# Altium footprint library Connector_IDC.PcbLib: 182 footprints (part 10 of 12)
Each footprint in its own frame and in the unit in brackets; x right, y up, seen from the top. Pads: shape width x height; smd on the part's side, far side on the other; paste and mask are expansions set on the pad; w line width, h text height; cw(c..) or ccw(c..) is an arc to the next point about the centre after c.
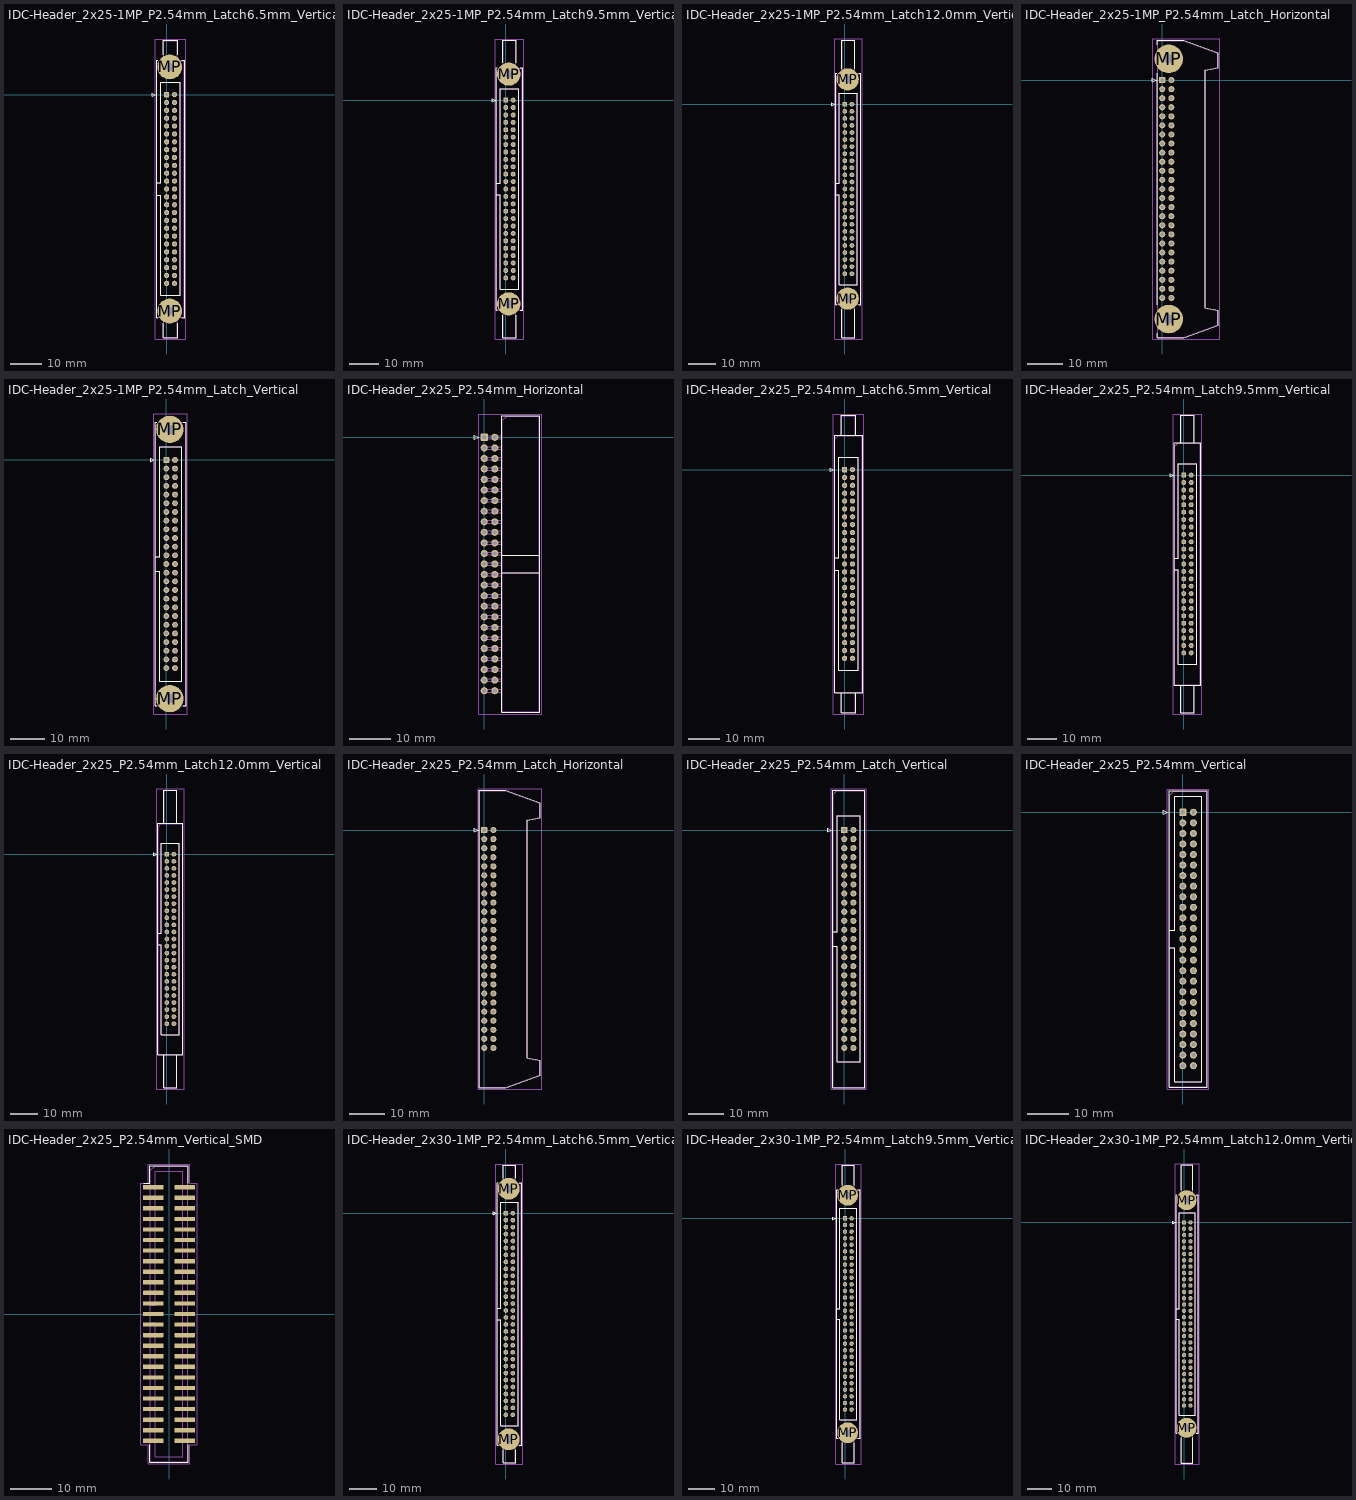
[diagram p9: the footprints below, top view; thin cyan lines are the x and y axes]

## IDC-Header_2x25-1MP_P2.54mm_Latch6.5mm_Vertical [mm]
pads (52):
  rrect15% 1.7x1.7 hole 1: 1(0,0)
  round 1.7 hole 1: 2(2.54,0) 3(0,-2.54) 4(2.54,-2.54) 5(0,-5.08) 6(2.54,-5.08) 7(0,-7.62) 8(2.54,-7.62) 9(0,-10.16) 10(2.54,-10.16) 11(0,-12.7) 12(2.54,-12.7) 13(0,-15.24) 14(2.54,-15.24) 15(0,-17.78) 16(2.54,-17.78) 17(0,-20.32) 18(2.54,-20.32) 19(0,-22.86) 20(2.54,-22.86) 21(0,-25.4) 22(2.54,-25.4) 23(0,-27.94) 24(2.54,-27.94) 25(0,-30.48) 26(2.54,-30.48) 27(0,-33.02) 28(2.54,-33.02) 29(0,-35.56) 30(2.54,-35.56) 31(0,-38.1) 32(2.54,-38.1) 33(0,-40.64) 34(2.54,-40.64) 35(0,-43.18) 36(2.54,-43.18) 37(0,-45.72) 38(2.54,-45.72) 39(0,-48.26) 40(2.54,-48.26) 41(0,-50.8) 42(2.54,-50.8) 43(0,-53.34) 44(2.54,-53.34) 45(0,-55.88) 46(2.54,-55.88) 47(0,-58.42) 48(2.54,-58.42) 49(0,-60.96) 50(2.54,-60.96)
  round 8 hole 2.69: MP(1.02,-69.9) MP(1.02,8.94)
F.SilkS:
  lines w0.254: -3.24,-32.53 -1.93,-32.53 -1.93,-64.88 4.47,-64.88 4.47,3.92 -1.93,3.92 -1.93,-28.43 -3.24,-28.43 ; -2.87,-72.04 -3.24,-72.04 -3.24,11.08 -2.87,11.08 ; -1.04,-73.79 -1.04,-78.54 3.58,-78.54 3.58,-73.79 ; -1.04,12.83 -1.04,17.58 3.58,17.58 3.58,12.83 ; 4.91,-72.04 5.78,-72.04 5.78,11.08 4.91,11.08 ; -4.63,-0.5 -3.63,0 -4.63,0.5 -4.63,-0.5
Top Assembly:
  lines w0.254: -3.13,-32.53 -1.93,-32.53 -1.93,-64.88 4.47,-64.88 4.47,3.92 -1.93,3.92 -1.93,-28.43 -3.13,-28.43 ; -0.93,-71.93 -0.93,-78.43 3.47,-78.43 3.47,-71.93 ; -0.93,10.97 -0.93,17.47 3.47,17.47 3.47,10.97 ; -3.13,-71.93 5.67,-71.93 5.67,10.97 -2.13,10.97 -3.13,9.97 -3.13,-71.93
  text "'.Designator'" at 2.11,-34.527 h1
Top Courtyard:
  lines w0.254: -3.63,-78.94 6.17,-78.94 6.17,17.97 -3.63,17.97 -3.63,-78.94
Top Designator:
  text ".Designator" at -6.848,-30.993 h1.52

## IDC-Header_2x25-1MP_P2.54mm_Latch9.5mm_Vertical [mm]
pads (52):
  rrect15% 1.7x1.7 hole 1: 1(0,0)
  round 1.7 hole 1: 2(2.54,0) 3(0,-2.54) 4(2.54,-2.54) 5(0,-5.08) 6(2.54,-5.08) 7(0,-7.62) 8(2.54,-7.62) 9(0,-10.16) 10(2.54,-10.16) 11(0,-12.7) 12(2.54,-12.7) 13(0,-15.24) 14(2.54,-15.24) 15(0,-17.78) 16(2.54,-17.78) 17(0,-20.32) 18(2.54,-20.32) 19(0,-22.86) 20(2.54,-22.86) 21(0,-25.4) 22(2.54,-25.4) 23(0,-27.94) 24(2.54,-27.94) 25(0,-30.48) 26(2.54,-30.48) 27(0,-33.02) 28(2.54,-33.02) 29(0,-35.56) 30(2.54,-35.56) 31(0,-38.1) 32(2.54,-38.1) 33(0,-40.64) 34(2.54,-40.64) 35(0,-43.18) 36(2.54,-43.18) 37(0,-45.72) 38(2.54,-45.72) 39(0,-48.26) 40(2.54,-48.26) 41(0,-50.8) 42(2.54,-50.8) 43(0,-53.34) 44(2.54,-53.34) 45(0,-55.88) 46(2.54,-55.88) 47(0,-58.42) 48(2.54,-58.42) 49(0,-60.96) 50(2.54,-60.96)
  round 8 hole 2.69: MP(1.02,-69.9) MP(1.02,8.94)
F.SilkS:
  lines w0.254: -3.24,-32.53 -1.93,-32.53 -1.93,-64.88 4.47,-64.88 4.47,3.92 -1.93,3.92 -1.93,-28.43 -3.24,-28.43 ; -2.87,-72.04 -3.24,-72.04 -3.24,11.08 -2.87,11.08 ; -1.04,-73.79 -1.04,-81.54 3.58,-81.54 3.58,-73.79 ; -1.04,12.83 -1.04,20.58 3.58,20.58 3.58,12.83 ; 4.91,-72.04 5.78,-72.04 5.78,11.08 4.91,11.08 ; -4.63,-0.5 -3.63,0 -4.63,0.5 -4.63,-0.5
Top Assembly:
  lines w0.254: -3.13,-32.53 -1.93,-32.53 -1.93,-64.88 4.47,-64.88 4.47,3.92 -1.93,3.92 -1.93,-28.43 -3.13,-28.43 ; -0.93,-71.93 -0.93,-81.43 3.47,-81.43 3.47,-71.93 ; -0.93,10.97 -0.93,20.47 3.47,20.47 3.47,10.97 ; -3.13,-71.93 5.67,-71.93 5.67,10.97 -2.13,10.97 -3.13,9.97 -3.13,-71.93
  text "'.Designator'" at 2.11,-34.527 h1
Top Courtyard:
  lines w0.254: -3.63,-81.93 6.17,-81.93 6.17,20.97 -3.63,20.97 -3.63,-81.93
Top Designator:
  text ".Designator" at -6.848,-30.988 h1.52

## IDC-Header_2x25-1MP_P2.54mm_Latch12.0mm_Vertical [mm]
pads (52):
  rrect15% 1.7x1.7 hole 1: 1(0,0)
  round 1.7 hole 1: 2(2.54,0) 3(0,-2.54) 4(2.54,-2.54) 5(0,-5.08) 6(2.54,-5.08) 7(0,-7.62) 8(2.54,-7.62) 9(0,-10.16) 10(2.54,-10.16) 11(0,-12.7) 12(2.54,-12.7) 13(0,-15.24) 14(2.54,-15.24) 15(0,-17.78) 16(2.54,-17.78) 17(0,-20.32) 18(2.54,-20.32) 19(0,-22.86) 20(2.54,-22.86) 21(0,-25.4) 22(2.54,-25.4) 23(0,-27.94) 24(2.54,-27.94) 25(0,-30.48) 26(2.54,-30.48) 27(0,-33.02) 28(2.54,-33.02) 29(0,-35.56) 30(2.54,-35.56) 31(0,-38.1) 32(2.54,-38.1) 33(0,-40.64) 34(2.54,-40.64) 35(0,-43.18) 36(2.54,-43.18) 37(0,-45.72) 38(2.54,-45.72) 39(0,-48.26) 40(2.54,-48.26) 41(0,-50.8) 42(2.54,-50.8) 43(0,-53.34) 44(2.54,-53.34) 45(0,-55.88) 46(2.54,-55.88) 47(0,-58.42) 48(2.54,-58.42) 49(0,-60.96) 50(2.54,-60.96)
  round 8 hole 2.69: MP(1.02,-69.9) MP(1.02,8.94)
F.SilkS:
  lines w0.254: -3.24,-32.53 -1.93,-32.53 -1.93,-64.88 4.47,-64.88 4.47,3.92 -1.93,3.92 -1.93,-28.43 -3.24,-28.43 ; -2.87,-72.04 -3.24,-72.04 -3.24,11.08 -2.87,11.08 ; -1.04,-73.79 -1.04,-84.04 3.58,-84.04 3.58,-73.79 ; -1.04,12.83 -1.04,23.08 3.58,23.08 3.58,12.83 ; 4.91,-72.04 5.78,-72.04 5.78,11.08 4.91,11.08 ; -4.63,-0.5 -3.63,0 -4.63,0.5 -4.63,-0.5
Top Assembly:
  lines w0.254: -3.13,-32.53 -1.93,-32.53 -1.93,-64.88 4.47,-64.88 4.47,3.92 -1.93,3.92 -1.93,-28.43 -3.13,-28.43 ; -0.93,-71.93 -0.93,-83.93 3.47,-83.93 3.47,-71.93 ; -0.93,10.97 -0.93,22.97 3.47,22.97 3.47,10.97 ; -3.13,-71.93 5.67,-71.93 5.67,10.97 -2.13,10.97 -3.13,9.97 -3.13,-71.93
  text "'.Designator'" at 2.11,-34.527 h1
Top Courtyard:
  lines w0.254: -3.63,-84.43 6.17,-84.43 6.17,23.47 -3.63,23.47 -3.63,-84.43
Top Designator:
  text ".Designator" at -6.848,-30.988 h1.52

## IDC-Header_2x25-1MP_P2.54mm_Latch_Horizontal [mm]
pads (52):
  rrect15% 1.7x1.7 hole 1: 1(0,0)
  round 1.7 hole 1: 2(2.54,0) 3(0,-2.54) 4(2.54,-2.54) 5(0,-5.08) 6(2.54,-5.08) 7(0,-7.62) 8(2.54,-7.62) 9(0,-10.16) 10(2.54,-10.16) 11(0,-12.7) 12(2.54,-12.7) 13(0,-15.24) 14(2.54,-15.24) 15(0,-17.78) 16(2.54,-17.78) 17(0,-20.32) 18(2.54,-20.32) 19(0,-22.86) 20(2.54,-22.86) 21(0,-25.4) 22(2.54,-25.4) 23(0,-27.94) 24(2.54,-27.94) 25(0,-30.48) 26(2.54,-30.48) 27(0,-33.02) 28(2.54,-33.02) 29(0,-35.56) 30(2.54,-35.56) 31(0,-38.1) 32(2.54,-38.1) 33(0,-40.64) 34(2.54,-40.64) 35(0,-43.18) 36(2.54,-43.18) 37(0,-45.72) 38(2.54,-45.72) 39(0,-48.26) 40(2.54,-48.26) 41(0,-50.8) 42(2.54,-50.8) 43(0,-53.34) 44(2.54,-53.34) 45(0,-55.88) 46(2.54,-55.88) 47(0,-58.42) 48(2.54,-58.42) 49(0,-60.96) 50(2.54,-60.96)
  round 8 hole 2.69: MP(1.8,-66.865) MP(1.8,5.905)
F.SilkS:
  lines w0.254: -1.35,-70.865 -1.35,-72.04 5.98,-72.04 15.64,-68.57 15.64,-64.38 12.08,-63.75 12.08,2.79 15.64,3.42 15.64,7.61 5.98,11.08 -1.35,11.08 -1.35,9.905 ; -1.35,-62.865 -1.35,1.905 ; -2.74,-0.5 -1.74,0 -2.74,0.5 -2.74,-0.5
Top Assembly:
  lines w0.254: -1.24,-71.93 5.87,-71.93 15.53,-68.46 15.53,-64.49 11.97,-63.86 11.97,2.9 15.53,3.53 15.53,7.5 5.87,10.97 -1.24,10.97 -1.24,-71.93
  text "'.Designator'" at 7.985,-34.527 h1
Top Courtyard:
  lines w0.254: -2.7,-72.44 16.03,-72.44 16.03,11.47 -2.7,11.47 -2.7,-72.44
Top Designator:
  text ".Designator" at -0.973,-30.993 h1.52

## IDC-Header_2x25-1MP_P2.54mm_Latch_Vertical [mm]
pads (52):
  rrect15% 1.7x1.7 hole 1: 1(0,0)
  round 1.7 hole 1: 2(2.54,0) 3(0,-2.54) 4(2.54,-2.54) 5(0,-5.08) 6(2.54,-5.08) 7(0,-7.62) 8(2.54,-7.62) 9(0,-10.16) 10(2.54,-10.16) 11(0,-12.7) 12(2.54,-12.7) 13(0,-15.24) 14(2.54,-15.24) 15(0,-17.78) 16(2.54,-17.78) 17(0,-20.32) 18(2.54,-20.32) 19(0,-22.86) 20(2.54,-22.86) 21(0,-25.4) 22(2.54,-25.4) 23(0,-27.94) 24(2.54,-27.94) 25(0,-30.48) 26(2.54,-30.48) 27(0,-33.02) 28(2.54,-33.02) 29(0,-35.56) 30(2.54,-35.56) 31(0,-38.1) 32(2.54,-38.1) 33(0,-40.64) 34(2.54,-40.64) 35(0,-43.18) 36(2.54,-43.18) 37(0,-45.72) 38(2.54,-45.72) 39(0,-48.26) 40(2.54,-48.26) 41(0,-50.8) 42(2.54,-50.8) 43(0,-53.34) 44(2.54,-53.34) 45(0,-55.88) 46(2.54,-55.88) 47(0,-58.42) 48(2.54,-58.42) 49(0,-60.96) 50(2.54,-60.96)
  round 8 hole 2.69: MP(1.02,-69.9) MP(1.02,8.94)
F.SilkS:
  lines w0.254: -3.24,-32.53 -1.93,-32.53 -1.93,-64.88 4.47,-64.88 4.47,3.92 -1.93,3.92 -1.93,-28.43 -3.24,-28.43 ; -2.87,-72.04 -3.24,-72.04 -3.24,11.08 -2.87,11.08 ; 4.91,-72.04 5.78,-72.04 5.78,11.08 4.91,11.08 ; -4.63,-0.5 -3.63,0 -4.63,0.5 -4.63,-0.5
Top Assembly:
  lines w0.254: -3.13,-32.53 -1.93,-32.53 -1.93,-64.88 4.47,-64.88 4.47,3.92 -1.93,3.92 -1.93,-28.43 -3.13,-28.43 ; -3.13,-71.93 5.67,-71.93 5.67,10.97 -2.13,10.97 -3.13,9.97 -3.13,-71.93
  text "'.Designator'" at 2.11,-34.527 h1
Top Courtyard:
  lines w0.254: -3.63,-74.4 6.17,-74.4 6.17,13.44 -3.63,13.44 -3.63,-74.4
Top Designator:
  text ".Designator" at -6.848,-30.988 h1.52

## IDC-Header_2x25_P2.54mm_Horizontal [mm]
pads (50):
  rrect15% 1.7x1.7 hole 1: 1(0,0)
  round 1.7 hole 1: 2(2.54,0) 3(0,-2.54) 4(2.54,-2.54) 5(0,-5.08) 6(2.54,-5.08) 7(0,-7.62) 8(2.54,-7.62) 9(0,-10.16) 10(2.54,-10.16) 11(0,-12.7) 12(2.54,-12.7) 13(0,-15.24) 14(2.54,-15.24) 15(0,-17.78) 16(2.54,-17.78) 17(0,-20.32) 18(2.54,-20.32) 19(0,-22.86) 20(2.54,-22.86) 21(0,-25.4) 22(2.54,-25.4) 23(0,-27.94) 24(2.54,-27.94) 25(0,-30.48) 26(2.54,-30.48) 27(0,-33.02) 28(2.54,-33.02) 29(0,-35.56) 30(2.54,-35.56) 31(0,-38.1) 32(2.54,-38.1) 33(0,-40.64) 34(2.54,-40.64) 35(0,-43.18) 36(2.54,-43.18) 37(0,-45.72) 38(2.54,-45.72) 39(0,-48.26) 40(2.54,-48.26) 41(0,-50.8) 42(2.54,-50.8) 43(0,-53.34) 44(2.54,-53.34) 45(0,-55.88) 46(2.54,-55.88) 47(0,-58.42) 48(2.54,-58.42) 49(0,-60.96) 50(2.54,-60.96)
F.SilkS:
  lines w0.254: 4.27,-32.53 13.39,-32.53 ; 4.27,-28.43 13.39,-28.43 ; -2.35,-0.5 -1.35,0 -2.35,0.5 -2.35,-0.5 ; 4.27,-66.17 13.39,-66.17 13.39,5.21 4.27,5.21 4.27,-66.17
Top Assembly:
  lines w0.254: 4.38,-61.28 -0.32,-61.28 -0.32,-60.64 4.38,-60.64 ; 4.38,-58.74 -0.32,-58.74 -0.32,-58.1 4.38,-58.1 ; 4.38,-56.2 -0.32,-56.2 -0.32,-55.56 4.38,-55.56 ; 4.38,-53.66 -0.32,-53.66 -0.32,-53.02 4.38,-53.02 ; 4.38,-51.12 -0.32,-51.12 -0.32,-50.48 4.38,-50.48 ; 4.38,-48.58 -0.32,-48.58 -0.32,-47.94 4.38,-47.94 ; 4.38,-46.04 -0.32,-46.04 -0.32,-45.4 4.38,-45.4 ; 4.38,-43.5 -0.32,-43.5 -0.32,-42.86 4.38,-42.86 ; 4.38,-40.96 -0.32,-40.96 -0.32,-40.32 4.38,-40.32 ; 4.38,-38.42 -0.32,-38.42 -0.32,-37.78 4.38,-37.78 ; 4.38,-35.88 -0.32,-35.88 -0.32,-35.24 4.38,-35.24 ; 4.38,-33.34 -0.32,-33.34 -0.32,-32.7 4.38,-32.7 ; 4.38,-32.53 13.28,-32.53 ; 4.38,-30.8 -0.32,-30.8 -0.32,-30.16 4.38,-30.16 ; 4.38,-28.43 13.28,-28.43 ; 4.38,-28.26 -0.32,-28.26 -0.32,-27.62 4.38,-27.62 ; 4.38,-25.72 -0.32,-25.72 -0.32,-25.08 4.38,-25.08 ; 4.38,-23.18 -0.32,-23.18 -0.32,-22.54 4.38,-22.54 ; 4.38,-20.64 -0.32,-20.64 -0.32,-20 4.38,-20 ; 4.38,-18.1 -0.32,-18.1 -0.32,-17.46 4.38,-17.46 ; 4.38,-15.56 -0.32,-15.56 -0.32,-14.92 4.38,-14.92 ; 4.38,-13.02 -0.32,-13.02 -0.32,-12.38 4.38,-12.38 ; 4.38,-10.48 -0.32,-10.48 -0.32,-9.84 4.38,-9.84 ; 4.38,-7.94 -0.32,-7.94 -0.32,-7.3 4.38,-7.3 ; 4.38,-5.4 -0.32,-5.4 -0.32,-4.76 4.38,-4.76 ; 4.38,-2.86 -0.32,-2.86 -0.32,-2.22 4.38,-2.22 ; 4.38,-0.32 -0.32,-0.32 -0.32,0.32 4.38,0.32 ; 4.38,-66.06 13.28,-66.06 13.28,5.1 5.38,5.1 4.38,4.1 4.38,-66.06
  text "'.Designator'" at 9.67,-34.527 h1
Top Courtyard:
  lines w0.254: -1.35,-66.56 13.78,-66.56 13.78,5.6 -1.35,5.6 -1.35,-66.56
Top Designator:
  text ".Designator" at -1.903,-30.988 h1.52

## IDC-Header_2x25_P2.54mm_Latch6.5mm_Vertical [mm]
pads (50):
  rrect15% 1.7x1.7 hole 1: 1(0,0)
  round 1.7 hole 1: 2(2.54,0) 3(0,-2.54) 4(2.54,-2.54) 5(0,-5.08) 6(2.54,-5.08) 7(0,-7.62) 8(2.54,-7.62) 9(0,-10.16) 10(2.54,-10.16) 11(0,-12.7) 12(2.54,-12.7) 13(0,-15.24) 14(2.54,-15.24) 15(0,-17.78) 16(2.54,-17.78) 17(0,-20.32) 18(2.54,-20.32) 19(0,-22.86) 20(2.54,-22.86) 21(0,-25.4) 22(2.54,-25.4) 23(0,-27.94) 24(2.54,-27.94) 25(0,-30.48) 26(2.54,-30.48) 27(0,-33.02) 28(2.54,-33.02) 29(0,-35.56) 30(2.54,-35.56) 31(0,-38.1) 32(2.54,-38.1) 33(0,-40.64) 34(2.54,-40.64) 35(0,-43.18) 36(2.54,-43.18) 37(0,-45.72) 38(2.54,-45.72) 39(0,-48.26) 40(2.54,-48.26) 41(0,-50.8) 42(2.54,-50.8) 43(0,-53.34) 44(2.54,-53.34) 45(0,-55.88) 46(2.54,-55.88) 47(0,-58.42) 48(2.54,-58.42) 49(0,-60.96) 50(2.54,-60.96)
F.SilkS:
  lines w0.254: -3.24,-32.53 -1.93,-32.53 -1.93,-64.88 4.47,-64.88 4.47,3.92 -1.93,3.92 -1.93,-28.43 -3.24,-28.43 ; -1.04,-72.04 -1.04,-78.54 3.58,-78.54 3.58,-72.04 ; -1.04,11.08 -1.04,17.58 3.58,17.58 3.58,11.08 ; -4.63,-0.5 -3.63,0 -4.63,0.5 -4.63,-0.5 ; -3.24,-72.04 5.78,-72.04 5.78,11.08 -3.24,11.08 -3.24,-72.04
Top Assembly:
  lines w0.254: -3.13,-32.53 -1.93,-32.53 -1.93,-64.88 4.47,-64.88 4.47,3.92 -1.93,3.92 -1.93,-28.43 -3.13,-28.43 ; -0.93,-71.93 -0.93,-78.43 3.47,-78.43 3.47,-71.93 ; -0.93,10.97 -0.93,17.47 3.47,17.47 3.47,10.97 ; -3.13,-71.93 5.67,-71.93 5.67,10.97 -2.13,10.97 -3.13,9.97 -3.13,-71.93
  text "'.Designator'" at 2.11,-34.527 h1
Top Courtyard:
  lines w0.254: -3.63,-78.94 6.17,-78.94 6.17,17.97 -3.63,17.97 -3.63,-78.94
Top Designator:
  text ".Designator" at -6.848,-30.993 h1.52

## IDC-Header_2x25_P2.54mm_Latch9.5mm_Vertical [mm]
pads (50):
  rrect15% 1.7x1.7 hole 1: 1(0,0)
  round 1.7 hole 1: 2(2.54,0) 3(0,-2.54) 4(2.54,-2.54) 5(0,-5.08) 6(2.54,-5.08) 7(0,-7.62) 8(2.54,-7.62) 9(0,-10.16) 10(2.54,-10.16) 11(0,-12.7) 12(2.54,-12.7) 13(0,-15.24) 14(2.54,-15.24) 15(0,-17.78) 16(2.54,-17.78) 17(0,-20.32) 18(2.54,-20.32) 19(0,-22.86) 20(2.54,-22.86) 21(0,-25.4) 22(2.54,-25.4) 23(0,-27.94) 24(2.54,-27.94) 25(0,-30.48) 26(2.54,-30.48) 27(0,-33.02) 28(2.54,-33.02) 29(0,-35.56) 30(2.54,-35.56) 31(0,-38.1) 32(2.54,-38.1) 33(0,-40.64) 34(2.54,-40.64) 35(0,-43.18) 36(2.54,-43.18) 37(0,-45.72) 38(2.54,-45.72) 39(0,-48.26) 40(2.54,-48.26) 41(0,-50.8) 42(2.54,-50.8) 43(0,-53.34) 44(2.54,-53.34) 45(0,-55.88) 46(2.54,-55.88) 47(0,-58.42) 48(2.54,-58.42) 49(0,-60.96) 50(2.54,-60.96)
F.SilkS:
  lines w0.254: -3.24,-32.53 -1.93,-32.53 -1.93,-64.88 4.47,-64.88 4.47,3.92 -1.93,3.92 -1.93,-28.43 -3.24,-28.43 ; -1.04,-72.04 -1.04,-81.54 3.58,-81.54 3.58,-72.04 ; -1.04,11.08 -1.04,20.58 3.58,20.58 3.58,11.08 ; -4.63,-0.5 -3.63,0 -4.63,0.5 -4.63,-0.5 ; -3.24,-72.04 5.78,-72.04 5.78,11.08 -3.24,11.08 -3.24,-72.04
Top Assembly:
  lines w0.254: -3.13,-32.53 -1.93,-32.53 -1.93,-64.88 4.47,-64.88 4.47,3.92 -1.93,3.92 -1.93,-28.43 -3.13,-28.43 ; -0.93,-71.93 -0.93,-81.43 3.47,-81.43 3.47,-71.93 ; -0.93,10.97 -0.93,20.47 3.47,20.47 3.47,10.97 ; -3.13,-71.93 5.67,-71.93 5.67,10.97 -2.13,10.97 -3.13,9.97 -3.13,-71.93
  text "'.Designator'" at 2.11,-34.527 h1
Top Courtyard:
  lines w0.254: -3.63,-81.93 6.17,-81.93 6.17,20.97 -3.63,20.97 -3.63,-81.93
Top Designator:
  text ".Designator" at -6.848,-30.988 h1.52

## IDC-Header_2x25_P2.54mm_Latch12.0mm_Vertical [mm]
pads (50):
  rrect15% 1.7x1.7 hole 1: 1(0,0)
  round 1.7 hole 1: 2(2.54,0) 3(0,-2.54) 4(2.54,-2.54) 5(0,-5.08) 6(2.54,-5.08) 7(0,-7.62) 8(2.54,-7.62) 9(0,-10.16) 10(2.54,-10.16) 11(0,-12.7) 12(2.54,-12.7) 13(0,-15.24) 14(2.54,-15.24) 15(0,-17.78) 16(2.54,-17.78) 17(0,-20.32) 18(2.54,-20.32) 19(0,-22.86) 20(2.54,-22.86) 21(0,-25.4) 22(2.54,-25.4) 23(0,-27.94) 24(2.54,-27.94) 25(0,-30.48) 26(2.54,-30.48) 27(0,-33.02) 28(2.54,-33.02) 29(0,-35.56) 30(2.54,-35.56) 31(0,-38.1) 32(2.54,-38.1) 33(0,-40.64) 34(2.54,-40.64) 35(0,-43.18) 36(2.54,-43.18) 37(0,-45.72) 38(2.54,-45.72) 39(0,-48.26) 40(2.54,-48.26) 41(0,-50.8) 42(2.54,-50.8) 43(0,-53.34) 44(2.54,-53.34) 45(0,-55.88) 46(2.54,-55.88) 47(0,-58.42) 48(2.54,-58.42) 49(0,-60.96) 50(2.54,-60.96)
F.SilkS:
  lines w0.254: -3.24,-32.53 -1.93,-32.53 -1.93,-64.88 4.47,-64.88 4.47,3.92 -1.93,3.92 -1.93,-28.43 -3.24,-28.43 ; -1.04,-72.04 -1.04,-84.04 3.58,-84.04 3.58,-72.04 ; -1.04,11.08 -1.04,23.08 3.58,23.08 3.58,11.08 ; -4.63,-0.5 -3.63,0 -4.63,0.5 -4.63,-0.5 ; -3.24,-72.04 5.78,-72.04 5.78,11.08 -3.24,11.08 -3.24,-72.04
Top Assembly:
  lines w0.254: -3.13,-32.53 -1.93,-32.53 -1.93,-64.88 4.47,-64.88 4.47,3.92 -1.93,3.92 -1.93,-28.43 -3.13,-28.43 ; -0.93,-71.93 -0.93,-83.93 3.47,-83.93 3.47,-71.93 ; -0.93,10.97 -0.93,22.97 3.47,22.97 3.47,10.97 ; -3.13,-71.93 5.67,-71.93 5.67,10.97 -2.13,10.97 -3.13,9.97 -3.13,-71.93
  text "'.Designator'" at 2.11,-34.527 h1
Top Courtyard:
  lines w0.254: -3.63,-84.43 6.17,-84.43 6.17,23.47 -3.63,23.47 -3.63,-84.43
Top Designator:
  text ".Designator" at -6.848,-30.988 h1.52

## IDC-Header_2x25_P2.54mm_Latch_Horizontal [mm]
pads (50):
  rrect15% 1.7x1.7 hole 1: 1(0,0)
  round 1.7 hole 1: 2(2.54,0) 3(0,-2.54) 4(2.54,-2.54) 5(0,-5.08) 6(2.54,-5.08) 7(0,-7.62) 8(2.54,-7.62) 9(0,-10.16) 10(2.54,-10.16) 11(0,-12.7) 12(2.54,-12.7) 13(0,-15.24) 14(2.54,-15.24) 15(0,-17.78) 16(2.54,-17.78) 17(0,-20.32) 18(2.54,-20.32) 19(0,-22.86) 20(2.54,-22.86) 21(0,-25.4) 22(2.54,-25.4) 23(0,-27.94) 24(2.54,-27.94) 25(0,-30.48) 26(2.54,-30.48) 27(0,-33.02) 28(2.54,-33.02) 29(0,-35.56) 30(2.54,-35.56) 31(0,-38.1) 32(2.54,-38.1) 33(0,-40.64) 34(2.54,-40.64) 35(0,-43.18) 36(2.54,-43.18) 37(0,-45.72) 38(2.54,-45.72) 39(0,-48.26) 40(2.54,-48.26) 41(0,-50.8) 42(2.54,-50.8) 43(0,-53.34) 44(2.54,-53.34) 45(0,-55.88) 46(2.54,-55.88) 47(0,-58.42) 48(2.54,-58.42) 49(0,-60.96) 50(2.54,-60.96)
F.SilkS:
  lines w0.254: -2.74,-0.5 -1.74,0 -2.74,0.5 -2.74,-0.5 ; -1.35,-72.04 5.98,-72.04 15.64,-68.57 15.64,-64.38 12.08,-63.75 12.08,2.79 15.64,3.42 15.64,7.61 5.98,11.08 -1.35,11.08 -1.35,-72.04
Top Assembly:
  lines w0.254: -1.24,-71.93 5.87,-71.93 15.53,-68.46 15.53,-64.49 11.97,-63.86 11.97,2.9 15.53,3.53 15.53,7.5 5.87,10.97 -1.24,10.97 -1.24,-71.93
  text "'.Designator'" at 7.985,-34.527 h1
Top Courtyard:
  lines w0.254: -1.74,-72.44 16.03,-72.44 16.03,11.47 -1.74,11.47 -1.74,-72.44
Top Designator:
  text ".Designator" at -0.973,-30.993 h1.52

## IDC-Header_2x25_P2.54mm_Latch_Vertical [mm]
pads (50):
  rrect15% 1.7x1.7 hole 1: 1(0,0)
  round 1.7 hole 1: 2(2.54,0) 3(0,-2.54) 4(2.54,-2.54) 5(0,-5.08) 6(2.54,-5.08) 7(0,-7.62) 8(2.54,-7.62) 9(0,-10.16) 10(2.54,-10.16) 11(0,-12.7) 12(2.54,-12.7) 13(0,-15.24) 14(2.54,-15.24) 15(0,-17.78) 16(2.54,-17.78) 17(0,-20.32) 18(2.54,-20.32) 19(0,-22.86) 20(2.54,-22.86) 21(0,-25.4) 22(2.54,-25.4) 23(0,-27.94) 24(2.54,-27.94) 25(0,-30.48) 26(2.54,-30.48) 27(0,-33.02) 28(2.54,-33.02) 29(0,-35.56) 30(2.54,-35.56) 31(0,-38.1) 32(2.54,-38.1) 33(0,-40.64) 34(2.54,-40.64) 35(0,-43.18) 36(2.54,-43.18) 37(0,-45.72) 38(2.54,-45.72) 39(0,-48.26) 40(2.54,-48.26) 41(0,-50.8) 42(2.54,-50.8) 43(0,-53.34) 44(2.54,-53.34) 45(0,-55.88) 46(2.54,-55.88) 47(0,-58.42) 48(2.54,-58.42) 49(0,-60.96) 50(2.54,-60.96)
F.SilkS:
  lines w0.254: -3.24,-32.53 -1.93,-32.53 -1.93,-64.88 4.47,-64.88 4.47,3.92 -1.93,3.92 -1.93,-28.43 -3.24,-28.43 ; -4.63,-0.5 -3.63,0 -4.63,0.5 -4.63,-0.5 ; -3.24,-72.04 5.78,-72.04 5.78,11.08 -3.24,11.08 -3.24,-72.04
Top Assembly:
  lines w0.254: -3.13,-32.53 -1.93,-32.53 -1.93,-64.88 4.47,-64.88 4.47,3.92 -1.93,3.92 -1.93,-28.43 -3.13,-28.43 ; -3.13,-71.93 5.67,-71.93 5.67,10.97 -2.13,10.97 -3.13,9.97 -3.13,-71.93
  text "'.Designator'" at 2.11,-34.527 h1
Top Courtyard:
  lines w0.254: -3.63,-72.44 6.17,-72.44 6.17,11.47 -3.63,11.47 -3.63,-72.44
Top Designator:
  text ".Designator" at -6.848,-30.993 h1.52

## IDC-Header_2x25_P2.54mm_Vertical [mm]
pads (50):
  rrect15% 1.7x1.7 hole 1: 1(0,0)
  round 1.7 hole 1: 2(2.54,0) 3(0,-2.54) 4(2.54,-2.54) 5(0,-5.08) 6(2.54,-5.08) 7(0,-7.62) 8(2.54,-7.62) 9(0,-10.16) 10(2.54,-10.16) 11(0,-12.7) 12(2.54,-12.7) 13(0,-15.24) 14(2.54,-15.24) 15(0,-17.78) 16(2.54,-17.78) 17(0,-20.32) 18(2.54,-20.32) 19(0,-22.86) 20(2.54,-22.86) 21(0,-25.4) 22(2.54,-25.4) 23(0,-27.94) 24(2.54,-27.94) 25(0,-30.48) 26(2.54,-30.48) 27(0,-33.02) 28(2.54,-33.02) 29(0,-35.56) 30(2.54,-35.56) 31(0,-38.1) 32(2.54,-38.1) 33(0,-40.64) 34(2.54,-40.64) 35(0,-43.18) 36(2.54,-43.18) 37(0,-45.72) 38(2.54,-45.72) 39(0,-48.26) 40(2.54,-48.26) 41(0,-50.8) 42(2.54,-50.8) 43(0,-53.34) 44(2.54,-53.34) 45(0,-55.88) 46(2.54,-55.88) 47(0,-58.42) 48(2.54,-58.42) 49(0,-60.96) 50(2.54,-60.96)
F.SilkS:
  lines w0.254: -3.29,-32.53 -1.98,-32.53 -1.98,-64.87 4.52,-64.87 4.52,3.91 -1.98,3.91 -1.98,-28.43 -3.29,-28.43 ; -4.68,-0.5 -3.68,0 -4.68,0.5 -4.68,-0.5 ; -3.29,-66.17 5.83,-66.17 5.83,5.21 -3.29,5.21 -3.29,-66.17
Top Assembly:
  lines w0.254: -3.18,-32.53 -1.98,-32.53 -1.98,-64.87 4.52,-64.87 4.52,3.91 -1.98,3.91 -1.98,-28.43 -3.18,-28.43 ; -3.18,-66.06 5.72,-66.06 5.72,5.1 -2.18,5.1 -3.18,4.1 -3.18,-66.06
  text "'.Designator'" at 2.11,-34.527 h1
Top Courtyard:
  lines w0.254: -3.68,-66.56 6.22,-66.56 6.22,5.6 -3.68,5.6 -3.68,-66.56
Top Designator:
  text ".Designator" at -6.848,-30.988 h1.52

## IDC-Header_2x25_P2.54mm_Vertical_SMD [mm]
pads (50):
  rrect25% 5x1.02 smd: 1(-3.8,30.48) 2(3.8,30.48) 3(-3.8,27.94) 4(3.8,27.94) 5(-3.8,25.4) 6(3.8,25.4) 7(-3.8,22.86) 8(3.8,22.86) 9(-3.8,20.32) 10(3.8,20.32) 11(-3.8,17.78) 12(3.8,17.78) 13(-3.8,15.24) 14(3.8,15.24) 15(-3.8,12.7) 16(3.8,12.7) 17(-3.8,10.16) 18(3.8,10.16) 19(-3.8,7.62) 20(3.8,7.62) 21(-3.8,5.08) 22(3.8,5.08) 23(-3.8,2.54) 24(3.8,2.54) 25(-3.8,0) 26(3.8,0) 27(-3.8,-2.54) 28(3.8,-2.54) 29(-3.8,-5.08) 30(3.8,-5.08) 31(-3.8,-7.62) 32(3.8,-7.62) 33(-3.8,-10.16) 34(3.8,-10.16) 35(-3.8,-12.7) 36(3.8,-12.7) 37(-3.8,-15.24) 38(3.8,-15.24) 39(-3.8,-17.78) 40(3.8,-17.78) 41(-3.8,-20.32) 42(3.8,-20.32) 43(-3.8,-22.86) 44(3.8,-22.86) 45(-3.8,-25.4) 46(3.8,-25.4) 47(-3.8,-27.94) 48(3.8,-27.94) 49(-3.8,-30.48) 50(3.8,-30.48)
F.SilkS:
  lines w0.254: -6.085,31.49 -4.585,31.49 -4.585,35.67 4.585,35.67 4.585,31.49 ; -4.585,-31.49 -4.585,-35.67 4.585,-35.67 4.585,-31.49
Top Assembly:
  lines w0.254: -4.475,-2.05 -3.275,-2.05 -3.275,-34.36 3.275,-34.36 3.275,34.36 -3.275,34.36 -3.275,2.05 -4.475,2.05 ; -4.475,-35.56 4.475,-35.56 4.475,35.56 -3.475,35.56 -4.475,34.56 -4.475,-35.56
  text "'.Designator'" at 0.84,-4.047 h1
Top Courtyard:
  lines w0.254: -6.8,-31.49 -4.98,-31.49 -4.98,-36.06 4.98,-36.06 4.98,-31.49 6.8,-31.49 6.8,31.49 4.98,31.49 4.98,36.06 -4.98,36.06 -4.98,31.49 -6.8,31.49 -6.8,-31.49
Top Designator:
  text ".Designator" at -7.618,-0.508 h1.52

## IDC-Header_2x30-1MP_P2.54mm_Latch6.5mm_Vertical [mm]
pads (62):
  rrect15% 1.7x1.7 hole 1: 1(0,0)
  round 1.7 hole 1: 2(2.54,0) 3(0,-2.54) 4(2.54,-2.54) 5(0,-5.08) 6(2.54,-5.08) 7(0,-7.62) 8(2.54,-7.62) 9(0,-10.16) 10(2.54,-10.16) 11(0,-12.7) 12(2.54,-12.7) 13(0,-15.24) 14(2.54,-15.24) 15(0,-17.78) 16(2.54,-17.78) 17(0,-20.32) 18(2.54,-20.32) 19(0,-22.86) 20(2.54,-22.86) 21(0,-25.4) 22(2.54,-25.4) 23(0,-27.94) 24(2.54,-27.94) 25(0,-30.48) 26(2.54,-30.48) 27(0,-33.02) 28(2.54,-33.02) 29(0,-35.56) 30(2.54,-35.56) 31(0,-38.1) 32(2.54,-38.1) 33(0,-40.64) 34(2.54,-40.64) 35(0,-43.18) 36(2.54,-43.18) 37(0,-45.72) 38(2.54,-45.72) 39(0,-48.26) 40(2.54,-48.26) 41(0,-50.8) 42(2.54,-50.8) 43(0,-53.34) 44(2.54,-53.34) 45(0,-55.88) 46(2.54,-55.88) 47(0,-58.42) 48(2.54,-58.42) 49(0,-60.96) 50(2.54,-60.96) 51(0,-63.5) 52(2.54,-63.5) 53(0,-66.04) 54(2.54,-66.04) 55(0,-68.58) 56(2.54,-68.58) 57(0,-71.12) 58(2.54,-71.12) 59(0,-73.66) 60(2.54,-73.66)
  round 8 hole 2.69: MP(1.02,-82.6) MP(1.02,8.94)
F.SilkS:
  lines w0.254: -3.24,-38.88 -1.93,-38.88 -1.93,-77.58 4.47,-77.58 4.47,3.92 -1.93,3.92 -1.93,-34.78 -3.24,-34.78 ; -2.87,-84.74 -3.24,-84.74 -3.24,11.08 -2.87,11.08 ; -1.04,-86.49 -1.04,-91.24 3.58,-91.24 3.58,-86.49 ; -1.04,12.83 -1.04,17.58 3.58,17.58 3.58,12.83 ; 4.91,-84.74 5.78,-84.74 5.78,11.08 4.91,11.08 ; -4.63,-0.5 -3.63,0 -4.63,0.5 -4.63,-0.5
Top Assembly:
  lines w0.254: -3.13,-38.88 -1.93,-38.88 -1.93,-77.58 4.47,-77.58 4.47,3.92 -1.93,3.92 -1.93,-34.78 -3.13,-34.78 ; -0.93,-84.63 -0.93,-91.13 3.47,-91.13 3.47,-84.63 ; -0.93,10.97 -0.93,17.47 3.47,17.47 3.47,10.97 ; -3.13,-84.63 5.67,-84.63 5.67,10.97 -2.13,10.97 -3.13,9.97 -3.13,-84.63
  text "'.Designator'" at 2.11,-40.877 h1
Top Courtyard:
  lines w0.254: -3.63,-91.63 6.17,-91.63 6.17,17.97 -3.63,17.97 -3.63,-91.63
Top Designator:
  text ".Designator" at -6.848,-37.338 h1.52

## IDC-Header_2x30-1MP_P2.54mm_Latch9.5mm_Vertical [mm]
pads (62):
  rrect15% 1.7x1.7 hole 1: 1(0,0)
  round 1.7 hole 1: 2(2.54,0) 3(0,-2.54) 4(2.54,-2.54) 5(0,-5.08) 6(2.54,-5.08) 7(0,-7.62) 8(2.54,-7.62) 9(0,-10.16) 10(2.54,-10.16) 11(0,-12.7) 12(2.54,-12.7) 13(0,-15.24) 14(2.54,-15.24) 15(0,-17.78) 16(2.54,-17.78) 17(0,-20.32) 18(2.54,-20.32) 19(0,-22.86) 20(2.54,-22.86) 21(0,-25.4) 22(2.54,-25.4) 23(0,-27.94) 24(2.54,-27.94) 25(0,-30.48) 26(2.54,-30.48) 27(0,-33.02) 28(2.54,-33.02) 29(0,-35.56) 30(2.54,-35.56) 31(0,-38.1) 32(2.54,-38.1) 33(0,-40.64) 34(2.54,-40.64) 35(0,-43.18) 36(2.54,-43.18) 37(0,-45.72) 38(2.54,-45.72) 39(0,-48.26) 40(2.54,-48.26) 41(0,-50.8) 42(2.54,-50.8) 43(0,-53.34) 44(2.54,-53.34) 45(0,-55.88) 46(2.54,-55.88) 47(0,-58.42) 48(2.54,-58.42) 49(0,-60.96) 50(2.54,-60.96) 51(0,-63.5) 52(2.54,-63.5) 53(0,-66.04) 54(2.54,-66.04) 55(0,-68.58) 56(2.54,-68.58) 57(0,-71.12) 58(2.54,-71.12) 59(0,-73.66) 60(2.54,-73.66)
  round 8 hole 2.69: MP(1.02,-82.6) MP(1.02,8.94)
F.SilkS:
  lines w0.254: -3.24,-38.88 -1.93,-38.88 -1.93,-77.58 4.47,-77.58 4.47,3.92 -1.93,3.92 -1.93,-34.78 -3.24,-34.78 ; -2.87,-84.74 -3.24,-84.74 -3.24,11.08 -2.87,11.08 ; -1.04,-86.49 -1.04,-94.24 3.58,-94.24 3.58,-86.49 ; -1.04,12.83 -1.04,20.58 3.58,20.58 3.58,12.83 ; 4.91,-84.74 5.78,-84.74 5.78,11.08 4.91,11.08 ; -4.63,-0.5 -3.63,0 -4.63,0.5 -4.63,-0.5
Top Assembly:
  lines w0.254: -3.13,-38.88 -1.93,-38.88 -1.93,-77.58 4.47,-77.58 4.47,3.92 -1.93,3.92 -1.93,-34.78 -3.13,-34.78 ; -0.93,-84.63 -0.93,-94.13 3.47,-94.13 3.47,-84.63 ; -0.93,10.97 -0.93,20.47 3.47,20.47 3.47,10.97 ; -3.13,-84.63 5.67,-84.63 5.67,10.97 -2.13,10.97 -3.13,9.97 -3.13,-84.63
  text "'.Designator'" at 2.11,-40.877 h1
Top Courtyard:
  lines w0.254: -3.63,-94.63 6.17,-94.63 6.17,20.97 -3.63,20.97 -3.63,-94.63
Top Designator:
  text ".Designator" at -6.848,-37.338 h1.52

## IDC-Header_2x30-1MP_P2.54mm_Latch12.0mm_Vertical [mm]
pads (62):
  rrect15% 1.7x1.7 hole 1: 1(0,0)
  round 1.7 hole 1: 2(2.54,0) 3(0,-2.54) 4(2.54,-2.54) 5(0,-5.08) 6(2.54,-5.08) 7(0,-7.62) 8(2.54,-7.62) 9(0,-10.16) 10(2.54,-10.16) 11(0,-12.7) 12(2.54,-12.7) 13(0,-15.24) 14(2.54,-15.24) 15(0,-17.78) 16(2.54,-17.78) 17(0,-20.32) 18(2.54,-20.32) 19(0,-22.86) 20(2.54,-22.86) 21(0,-25.4) 22(2.54,-25.4) 23(0,-27.94) 24(2.54,-27.94) 25(0,-30.48) 26(2.54,-30.48) 27(0,-33.02) 28(2.54,-33.02) 29(0,-35.56) 30(2.54,-35.56) 31(0,-38.1) 32(2.54,-38.1) 33(0,-40.64) 34(2.54,-40.64) 35(0,-43.18) 36(2.54,-43.18) 37(0,-45.72) 38(2.54,-45.72) 39(0,-48.26) 40(2.54,-48.26) 41(0,-50.8) 42(2.54,-50.8) 43(0,-53.34) 44(2.54,-53.34) 45(0,-55.88) 46(2.54,-55.88) 47(0,-58.42) 48(2.54,-58.42) 49(0,-60.96) 50(2.54,-60.96) 51(0,-63.5) 52(2.54,-63.5) 53(0,-66.04) 54(2.54,-66.04) 55(0,-68.58) 56(2.54,-68.58) 57(0,-71.12) 58(2.54,-71.12) 59(0,-73.66) 60(2.54,-73.66)
  round 8 hole 2.69: MP(1.02,-82.6) MP(1.02,8.94)
F.SilkS:
  lines w0.254: -3.24,-38.88 -1.93,-38.88 -1.93,-77.58 4.47,-77.58 4.47,3.92 -1.93,3.92 -1.93,-34.78 -3.24,-34.78 ; -2.87,-84.74 -3.24,-84.74 -3.24,11.08 -2.87,11.08 ; -1.04,-86.49 -1.04,-96.74 3.58,-96.74 3.58,-86.49 ; -1.04,12.83 -1.04,23.08 3.58,23.08 3.58,12.83 ; 4.91,-84.74 5.78,-84.74 5.78,11.08 4.91,11.08 ; -4.63,-0.5 -3.63,0 -4.63,0.5 -4.63,-0.5
Top Assembly:
  lines w0.254: -3.13,-38.88 -1.93,-38.88 -1.93,-77.58 4.47,-77.58 4.47,3.92 -1.93,3.92 -1.93,-34.78 -3.13,-34.78 ; -0.93,-84.63 -0.93,-96.63 3.47,-96.63 3.47,-84.63 ; -0.93,10.97 -0.93,22.97 3.47,22.97 3.47,10.97 ; -3.13,-84.63 5.67,-84.63 5.67,10.97 -2.13,10.97 -3.13,9.97 -3.13,-84.63
  text "'.Designator'" at 2.11,-40.877 h1
Top Courtyard:
  lines w0.254: -3.63,-97.13 6.17,-97.13 6.17,23.47 -3.63,23.47 -3.63,-97.13
Top Designator:
  text ".Designator" at -6.848,-37.338 h1.52